# Altium integrated library Analog Devices Switches and Multiplexers Analog Switches.IntLib: 575 symbols (part 6 of 23)
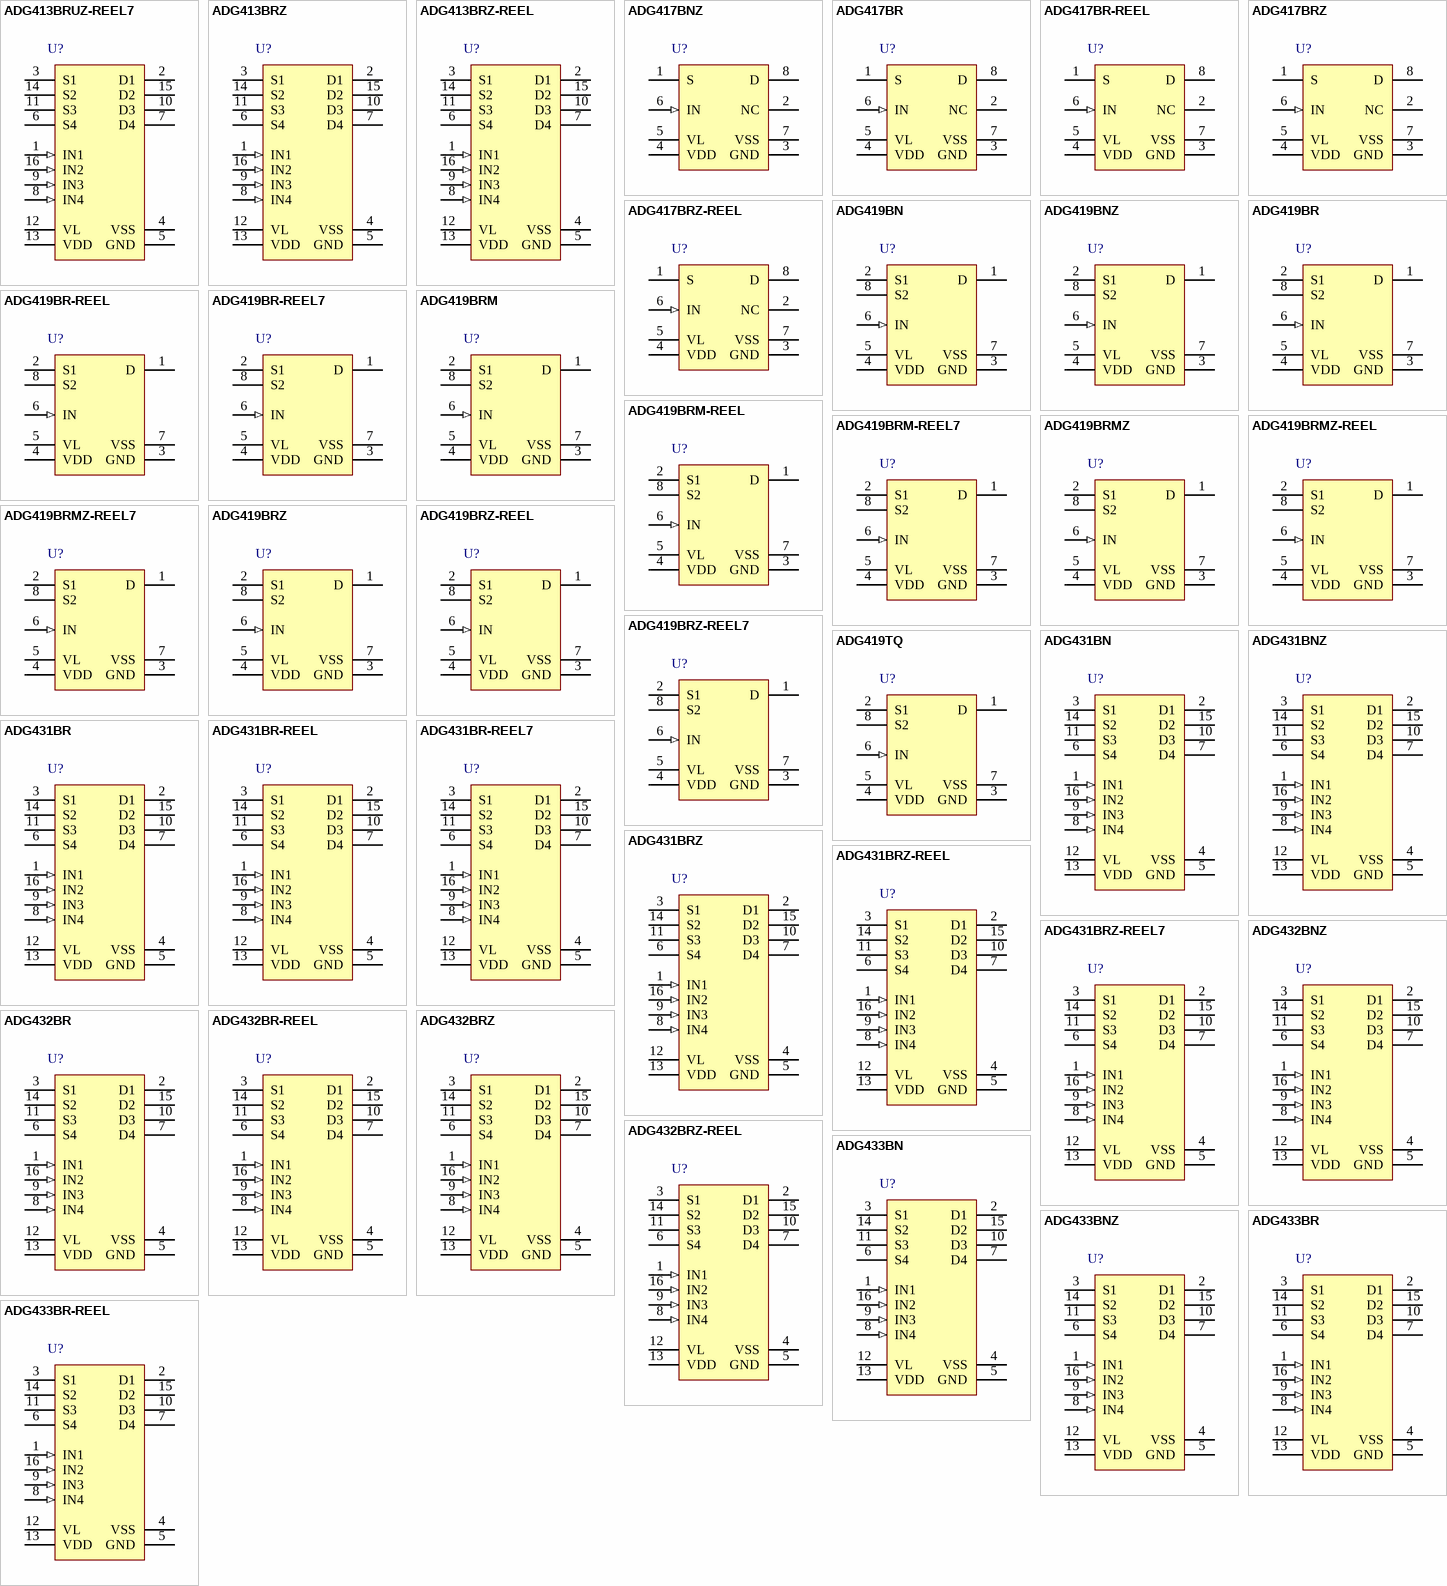
[diagram p20: symbols ADG413BRUZ-REEL7 to ADG433BR-REEL]

## ADG413BRZ
designator U?
LC2MOS Precision Quad SPST Switches, 25 Ohm Ron, 16-pin SOIC (R-16), Tube; Manufacturer: Analog Devices; PartNumber: ADG413BRZ; # Sw Functions: 4; Max Neg Supply: -16.5V; Max Pos Supply: +16.5V; Ron (ohms): 25, 40; t ON: 110ns, 175ns; DatasheetVersion: Rev. D; PackageVersion: 060606-A, 06/2006; PackageReference: R-16; PackageDescription: 16-Pin Standard Small Outline Package, Body 9.9 x 3.9 mm, Pitch 1.27 mm; Supplier 1: Digi-Key; Supplier Part Number 1: ADG413BRZ-ND; Supplier 2: Farnell; Supplier Part Number 2: 1661022; Supplier 3: Newark; Supplier Part Number 3: 19M8650; Supplier 4: Mouser; Supplier Part Number 4: 584-ADG413BRZ; Configuration: SPST; Packing: Tube; Mounting Technology: Surface Mount; Code_JEDEC: MS-012-AC; ComponentLink1Description: Manufacturer URL; ComponentLink1URL: http://www.analog.com/en/index.html; ComponentLink2Description: Datasheet; ComponentLink2URL: http://www.analog.com/static/imported-files/data_sheets/ADG411_412_413.pdf; ComponentLink3Description: Package Specification; ComponentLink3URL: http://www.analog.com/static/imported-files/packages/PKG_PDF/SOIC_Narrow%20(R)/R_16.pdf
footprint ADI-R-16_N (SOIC, 16-Leads, Body 9.9x3.9mm, Pitch 1.27mm, IPC Medium Density)
footprint ADI-R-16_L (SOIC, 16-Leads, Body 9.9x3.9mm, Pitch 1.27mm, IPC High Density)
footprint ADI-R-16_M (SOIC, 16-Leads, Body 9.9x3.9mm, Pitch 1.27mm, IPC Low Density)
pins: 1 IN1 (in) "Logic Control Input.", 2 D1 "Drain Terminal. Can be an input or output.", 3 S1 "Source Terminal. Can be an input or output.", 4 VSS (power) "Most Negative Power Supply Potential in Dual Supplies. In single supply applications, it may be connected to GND.", 5 GND (power) "Ground (0 V) Reference.", 6 S4 "Source Terminal. Can be an input or output.", 7 D4 "Drain Terminal. Can be an input or output.", 8 IN4 (in) "Logic Control Input.", 9 IN3 (in) "Logic Control Input.", 10 D3 "Drain Terminal. Can be an input or output.", 11 S3 "Source Terminal. Can be an input or output.", 12 VL (power) "Logic Power Supply (5 V).", 13 VDD (power) "Most Positive Power Supply Potential.", 14 S2 "Source Terminal. Can be an input or output.", 15 D2 "Drain Terminal. Can be an input or output.", 16 IN2 (in) "Logic Control Input."

## ADG413BRZ-REEL
designator U?
LC2MOS Precision Quad SPST Switches, 25 Ohm Ron, 16-pin SOIC (R-16), Reel; Manufacturer: Analog Devices; PartNumber: ADG413BRZ-REEL; # Sw Functions: 4; Max Neg Supply: -16.5V; Max Pos Supply: +16.5V; Ron (ohms): 25, 40; t ON: 110ns, 175ns; DatasheetVersion: Rev. D; PackageVersion: 060606-A, 06/2006; PackageReference: R-16; PackageDescription: 16-Pin Standard Small Outline Package, Body 9.9 x 3.9 mm, Pitch 1.27 mm; Supplier 1: Digi-Key; Supplier Part Number 1: ADG413BRZ-REELTR-ND; Supplier 2: Digi-Key; Supplier Part Number 2: ADG413BRZ-REELCT-ND; Supplier 3: Digi-Key; Supplier Part Number 3: ADG413BRZ-REELDKR-ND; Supplier 4: Newark; Supplier Part Number 4: 59K1256; Supplier 5: Mouser; Supplier Part Number 5: 584-ADG413BRZ-R; Configuration: SPST; Packing: Reel; Mounting Technology: Surface Mount; Code_JEDEC: MS-012-AC; ComponentLink1Description: Manufacturer URL; ComponentLink1URL: http://www.analog.com/en/index.html; ComponentLink2Description: Datasheet; ComponentLink2URL: http://www.analog.com/static/imported-files/data_sheets/ADG411_412_413.pdf; ComponentLink3Description: Package Specification; ComponentLink3URL: http://www.analog.com/static/imported-files/packages/PKG_PDF/SOIC_Narrow%20(R)/R_16.pdf
footprint ADI-R-16_N (SOIC, 16-Leads, Body 9.9x3.9mm, Pitch 1.27mm, IPC Medium Density)
footprint ADI-R-16_L (SOIC, 16-Leads, Body 9.9x3.9mm, Pitch 1.27mm, IPC High Density)
footprint ADI-R-16_M (SOIC, 16-Leads, Body 9.9x3.9mm, Pitch 1.27mm, IPC Low Density)
pins: 1 IN1 (in) "Logic Control Input.", 2 D1 "Drain Terminal. Can be an input or output.", 3 S1 "Source Terminal. Can be an input or output.", 4 VSS (power) "Most Negative Power Supply Potential in Dual Supplies. In single supply applications, it may be connected to GND.", 5 GND (power) "Ground (0 V) Reference.", 6 S4 "Source Terminal. Can be an input or output.", 7 D4 "Drain Terminal. Can be an input or output.", 8 IN4 (in) "Logic Control Input.", 9 IN3 (in) "Logic Control Input.", 10 D3 "Drain Terminal. Can be an input or output.", 11 S3 "Source Terminal. Can be an input or output.", 12 VL (power) "Logic Power Supply (5 V).", 13 VDD (power) "Most Positive Power Supply Potential.", 14 S2 "Source Terminal. Can be an input or output.", 15 D2 "Drain Terminal. Can be an input or output.", 16 IN2 (in) "Logic Control Input."

## ADG417BNZ
designator U?
LC2MOS Precision Mini-DIP Analog Switches, 25 Ohm Ron, 8-pin DIP (N-8), Tube; Manufacturer: Analog Devices; PartNumber: ADG417BNZ; # Sw Functions: 1; Configuration: SPST; Max Neg Supply: -16.5V; Max Pos Supply: +16.5V; Ron (ohms): 25, 40; t ON: 100ns, N/A; DatasheetVersion: Rev. A; PackageVersion: 070606-A, 07/2006; PackageReference: N-8; PackageDescription: 8-Pin Plastic Dual In-Line Package, Row spacing 7.62 mm, Pitch 2.54 mm; Supplier 1: Digi-Key; Supplier Part Number 1: ADG417BNZ-ND; Supplier 2: Farnell; Supplier Part Number 2: 1311279; Supplier 3: Newark; Supplier Part Number 3: 59K1257; Supplier 4: Mouser; Supplier Part Number 4: 584-ADG417BNZ; Packing: Tube; Mounting Technology: Through Hole; Code_JEDEC: MS-001; ComponentLink1Description: Manufacturer URL; ComponentLink1URL: http://www.analog.com/en/index.html; ComponentLink2Description: Datasheet; ComponentLink2URL: http://www.analog.com/static/imported-files/data_sheets/ADG417.pdf; ComponentLink3Description: Package Specification; ComponentLink3URL: http:/www.analog.com/static/imported-files/packages/PKG_PDF/PDIP(N)/N_8.pdf
footprint ADI-N-8 (DIP, 8-Leads, Body 9.59x6.6mm, Pitch 2.54mm)
pins: 1 S "Source terminal. May be an input or an output.", 2 NC "No connect", 3 GND (power) "Ground (0 V) reference.", 4 VDD (power) "Most positive power supply potential.", 5 VL (power) "Logic power supply (+5 V).", 6 IN (in) "Logic control input.", 7 VSS (power) "Most negative power supply potential in dual supplies. In single supply applications, it may be connected to GND.", 8 D "Drain terminal. May be an input or an output."

## ADG417BR
designator U?
LC2MOS Precision Mini-DIP Analog Switches, 25 Ohm Ron, 8-pin SOIC (R-8), Tube; Manufacturer: Analog Devices; PartNumber: ADG417BR; # Sw Functions: 1; Configuration: SPST; Max Neg Supply: -16.5V; Max Pos Supply: +16.5V; Ron (ohms): 25, 40; t ON: 100ns, N/A; DatasheetVersion: Rev. A; PackageVersion: 060506-A, 06/2006; PackageReference: R-8; PackageDescription: 8-Pin Standard Small Outline Package, Body 4.9 x 3.9 mm, Pitch 1.27 mm; Supplier 1: Digi-Key; Supplier Part Number 1: ADG417BR-ND; Supplier 2: Mouser; Supplier Part Number 2: 584-ADG417BR; Packing: Tube; Mounting Technology: Surface Mount; Code_JEDEC: MS-012-AA; ComponentLink1Description: Manufacturer URL; ComponentLink1URL: http://www.analog.com/en/index.html; ComponentLink2Description: Datasheet; ComponentLink2URL: http://www.analog.com/static/imported-files/data_sheets/ADG417.pdf; ComponentLink3Description: Package Specification; ComponentLink3URL: http://www.analog.com/static/imported-files/packages/PKG_PDF/SOIC_Narrow%20(R)/R_8.pdf
footprint ADI-R-8_N (SOIC, 8-Leads, Body 4.9x3.9mm, Pitch 1.27mm, IPC Medium Density)
footprint ADI-R-8_L (SOIC, 8-Leads, Body 4.9x3.9mm, Pitch 1.27mm, IPC High Density)
footprint ADI-R-8_M (SOIC, 8-Leads, Body 4.9x3.9mm, Pitch 1.27mm, IPC Low Density)
pins: 1 S "Source terminal. May be an input or an output.", 2 NC "No connect", 3 GND (power) "Ground (0 V) reference.", 4 VDD (power) "Most positive power supply potential.", 5 VL (power) "Logic power supply (+5 V).", 6 IN (in) "Logic control input.", 7 VSS (power) "Most negative power supply potential in dual supplies. In single supply applications, it may be connected to GND.", 8 D "Drain terminal. May be an input or an output."

## ADG417BR-REEL
designator U?
LC2MOS Precision Mini-DIP Analog Switches, 25 Ohm Ron, 8-pin SOIC (R-8), Reel; Manufacturer: Analog Devices; PartNumber: ADG417BR-REEL; # Sw Functions: 1; Configuration: SPST; Max Neg Supply: -16.5V; Max Pos Supply: +16.5V; Ron (ohms): 25, 40; t ON: 100ns, N/A; DatasheetVersion: Rev. A; PackageVersion: 060506-A, 06/2006; PackageReference: R-8; PackageDescription: 8-Pin Standard Small Outline Package, Body 4.9 x 3.9 mm, Pitch 1.27 mm; Supplier 1: Digi-Key; Supplier Part Number 1: ADG417BR-REEL-ND; Supplier 2: Newark; Supplier Part Number 2: 09B7029; Packing: Reel; Mounting Technology: Surface Mount; Code_JEDEC: MS-012-AA; ComponentLink1Description: Manufacturer URL; ComponentLink1URL: http://www.analog.com/en/index.html; ComponentLink2Description: Datasheet; ComponentLink2URL: http://www.analog.com/static/imported-files/data_sheets/ADG417.pdf; ComponentLink3Description: Package Specification; ComponentLink3URL: http://www.analog.com/static/imported-files/packages/PKG_PDF/SOIC_Narrow%20(R)/R_8.pdf
footprint ADI-R-8_N (SOIC, 8-Leads, Body 4.9x3.9mm, Pitch 1.27mm, IPC Medium Density)
footprint ADI-R-8_L (SOIC, 8-Leads, Body 4.9x3.9mm, Pitch 1.27mm, IPC High Density)
footprint ADI-R-8_M (SOIC, 8-Leads, Body 4.9x3.9mm, Pitch 1.27mm, IPC Low Density)
pins: 1 S "Source terminal. May be an input or an output.", 2 NC "No connect", 3 GND (power) "Ground (0 V) reference.", 4 VDD (power) "Most positive power supply potential.", 5 VL (power) "Logic power supply (+5 V).", 6 IN (in) "Logic control input.", 7 VSS (power) "Most negative power supply potential in dual supplies. In single supply applications, it may be connected to GND.", 8 D "Drain terminal. May be an input or an output."

## ADG417BRZ
designator U?
LC2MOS Precision Mini-DIP Analog Switches, 25 Ohm Ron, 8-pin SOIC (R-8), Tube; Manufacturer: Analog Devices; PartNumber: ADG417BRZ; # Sw Functions: 1; Configuration: SPST; Max Neg Supply: -16.5V; Max Pos Supply: +16.5V; Ron (ohms): 25, 40; t ON: 100ns, N/A; DatasheetVersion: Rev. A; PackageVersion: 060506-A, 06/2006; PackageReference: R-8; PackageDescription: 8-Pin Standard Small Outline Package, Body 4.9 x 3.9 mm, Pitch 1.27 mm; Supplier 1: Digi-Key; Supplier Part Number 1: ADG417BRZ-ND; Supplier 2: Farnell; Supplier Part Number 2: 1814351; Supplier 3: Newark; Supplier Part Number 3: 74R7488; Supplier 4: Newark; Supplier Part Number 4: 19M8651; Supplier 5: Mouser; Supplier Part Number 5: 584-ADG417BRZ; Packing: Tube; Mounting Technology: Surface Mount; Code_JEDEC: MS-012-AA; ComponentLink1Description: Manufacturer URL; ComponentLink1URL: http://www.analog.com/en/index.html; ComponentLink2Description: Datasheet; ComponentLink2URL: http://www.analog.com/static/imported-files/data_sheets/ADG417.pdf; ComponentLink3Description: Package Specification; ComponentLink3URL: http://www.analog.com/static/imported-files/packages/PKG_PDF/SOIC_Narrow%20(R)/R_8.pdf
footprint ADI-R-8_N (SOIC, 8-Leads, Body 4.9x3.9mm, Pitch 1.27mm, IPC Medium Density)
footprint ADI-R-8_L (SOIC, 8-Leads, Body 4.9x3.9mm, Pitch 1.27mm, IPC High Density)
footprint ADI-R-8_M (SOIC, 8-Leads, Body 4.9x3.9mm, Pitch 1.27mm, IPC Low Density)
pins: 1 S "Source terminal. May be an input or an output.", 2 NC "No connect", 3 GND (power) "Ground (0 V) reference.", 4 VDD (power) "Most positive power supply potential.", 5 VL (power) "Logic power supply (+5 V).", 6 IN (in) "Logic control input.", 7 VSS (power) "Most negative power supply potential in dual supplies. In single supply applications, it may be connected to GND.", 8 D "Drain terminal. May be an input or an output."

## ADG417BRZ-REEL
designator U?
LC2MOS Precision Mini-DIP Analog Switches, 25 Ohm Ron, 8-pin SOIC (R-8), Reel; Manufacturer: Analog Devices; PartNumber: ADG417BRZ-REEL; # Sw Functions: 1; Configuration: SPST; Max Neg Supply: -16.5V; Max Pos Supply: +16.5V; Ron (ohms): 25, 40; t ON: 100ns, N/A; DatasheetVersion: Rev. A; PackageVersion: 060506-A, 06/2006; PackageReference: R-8; PackageDescription: 8-Pin Standard Small Outline Package, Body 4.9 x 3.9 mm, Pitch 1.27 mm; Supplier 1: Digi-Key; Supplier Part Number 1: ADG417BRZ-REELTR-ND; Supplier 2: Digi-Key; Supplier Part Number 2: ADG417BRZ-REELCT-ND; Supplier 3: Digi-Key; Supplier Part Number 3: ADG417BRZ-REELDKR-ND; Supplier 4: Newark; Supplier Part Number 4: 12M7794; Supplier 5: Mouser; Supplier Part Number 5: 584-ADG417BRZ-R; Packing: Reel; Mounting Technology: Surface Mount; Code_JEDEC: MS-012-AA; ComponentLink1Description: Manufacturer URL; ComponentLink1URL: http://www.analog.com/en/index.html; ComponentLink2Description: Datasheet; ComponentLink2URL: http://www.analog.com/static/imported-files/data_sheets/ADG417.pdf; ComponentLink3Description: Package Specification; ComponentLink3URL: http://www.analog.com/static/imported-files/packages/PKG_PDF/SOIC_Narrow%20(R)/R_8.pdf
footprint ADI-R-8_N (SOIC, 8-Leads, Body 4.9x3.9mm, Pitch 1.27mm, IPC Medium Density)
footprint ADI-R-8_L (SOIC, 8-Leads, Body 4.9x3.9mm, Pitch 1.27mm, IPC High Density)
footprint ADI-R-8_M (SOIC, 8-Leads, Body 4.9x3.9mm, Pitch 1.27mm, IPC Low Density)
pins: 1 S "Source terminal. May be an input or an output.", 2 NC "No connect", 3 GND (power) "Ground (0 V) reference.", 4 VDD (power) "Most positive power supply potential.", 5 VL (power) "Logic power supply (+5 V).", 6 IN (in) "Logic control input.", 7 VSS (power) "Most negative power supply potential in dual supplies. In single supply applications, it may be connected to GND.", 8 D "Drain terminal. May be an input or an output."

## ADG419BN
designator U?
LC2MOS Precision Mini-DIP Analog Switches, 25 Ohm Ron, 8-pin DIP (N-8), Tube; Manufacturer: Analog Devices; PartNumber: ADG419BN; # Sw Functions: 1; Configuration: SPDT; Max Neg Supply: -16.5V; Max Pos Supply: +16.5V; Ron (ohms): 25, 40; DatasheetVersion: Rev. C; PackageVersion: 070606-A, 07/2006; PackageReference: N-8; PackageDescription: 8-Pin Plastic Dual In-Line Package, Row spacing 7.62 mm, Pitch 2.54 mm; Supplier 1: Digi-Key; Supplier Part Number 1: ADG419BN-ND; Packing: Tube; Mounting Technology: Through Hole; Code_JEDEC: MS-001; ComponentLink1Description: Manufacturer URL; ComponentLink1URL: http://www.analog.com/en/index.html; ComponentLink2Description: Datasheet; ComponentLink2URL: http://www.analog.com/static/imported-files/data_sheets/ADG419.pdf; ComponentLink3Description: Package Specification; ComponentLink3URL: http:/www.analog.com/static/imported-files/packages/PKG_PDF/PDIP(N)/N_8.pdf
footprint ADI-N-8 (DIP, 8-Leads, Body 9.59x6.6mm, Pitch 2.54mm)
pins: 1 D "Drain terminal. May be an input or an output.", 2 S1 "Source terminal. May be an input or an output.", 3 GND (power) "Ground (0 V) reference.", 4 VDD (power) "Most positive power supply potential.", 5 VL (power) "Logic power supply (5 V).", 6 IN (in) "Logic control input.", 7 VSS (power) "Most negative power supply potential in dual-supply applications. In single-supply applications, it may be connected to GND.", 8 S2 "Source terminal. May be an input or an output."

## ADG419BNZ
designator U?
LC2MOS Precision Mini-DIP Analog Switches, 25 Ohm Ron, 8-pin DIP (N-8), Tube; Manufacturer: Analog Devices; PartNumber: ADG419BNZ; # Sw Functions: 1; Configuration: SPDT; Max Neg Supply: -16.5V; Max Pos Supply: +16.5V; Ron (ohms): 25, 40; DatasheetVersion: Rev. C; PackageVersion: 070606-A, 07/2006; PackageReference: N-8; PackageDescription: 8-Pin Plastic Dual In-Line Package, Row spacing 7.62 mm, Pitch 2.54 mm; Supplier 1: Digi-Key; Supplier Part Number 1: ADG419BNZ-ND; Supplier 2: Farnell; Supplier Part Number 2: 1438705; Supplier 3: Newark; Supplier Part Number 3: 59K1259; Supplier 4: Mouser; Supplier Part Number 4: 584-ADG419BNZ; Packing: Tube; Mounting Technology: Through Hole; Code_JEDEC: MS-001; ComponentLink1Description: Manufacturer URL; ComponentLink1URL: http://www.analog.com/en/index.html; ComponentLink2Description: Datasheet; ComponentLink2URL: http://www.analog.com/static/imported-files/data_sheets/ADG419.pdf; ComponentLink3Description: Package Specification; ComponentLink3URL: http:/www.analog.com/static/imported-files/packages/PKG_PDF/PDIP(N)/N_8.pdf
footprint ADI-N-8 (DIP, 8-Leads, Body 9.59x6.6mm, Pitch 2.54mm)
pins: 1 D "Drain terminal. May be an input or an output.", 2 S1 "Source terminal. May be an input or an output.", 3 GND (power) "Ground (0 V) reference.", 4 VDD (power) "Most positive power supply potential.", 5 VL (power) "Logic power supply (5 V).", 6 IN (in) "Logic control input.", 7 VSS (power) "Most negative power supply potential in dual-supply applications. In single-supply applications, it may be connected to GND.", 8 S2 "Source terminal. May be an input or an output."

## ADG419BR
designator U?
LC2MOS Precision Mini-DIP Analog Switches, 25 Ohm Ron, 8-pin SOIC (R-8), Tube; Manufacturer: Analog Devices; PartNumber: ADG419BR; # Sw Functions: 1; Configuration: SPDT; Max Neg Supply: -16.5V; Max Pos Supply: +16.5V; Ron (ohms): 25, 40; DatasheetVersion: Rev. C; PackageVersion: 060506-A, 06/2006; PackageReference: R-8; PackageDescription: 8-Pin Standard Small Outline Package, Body 4.9 x 3.9 mm, Pitch 1.27 mm; Supplier 1: Digi-Key; Supplier Part Number 1: ADG419BR-ND; Supplier 2: Newark; Supplier Part Number 2: 05F6203; Supplier 3: Mouser; Supplier Part Number 3: 584-ADG419BR; Packing: Tube; Mounting Technology: Surface Mount; Code_JEDEC: MS-012-AA; ComponentLink1Description: Manufacturer URL; ComponentLink1URL: http://www.analog.com/en/index.html; ComponentLink2Description: Datasheet; ComponentLink2URL: http://www.analog.com/static/imported-files/data_sheets/ADG419.pdf; ComponentLink3Description: Package Specification; ComponentLink3URL: http://www.analog.com/static/imported-files/packages/PKG_PDF/SOIC_Narrow%20(R)/R_8.pdf
footprint ADI-R-8_N (SOIC, 8-Leads, Body 4.9x3.9mm, Pitch 1.27mm, IPC Medium Density)
footprint ADI-R-8_L (SOIC, 8-Leads, Body 4.9x3.9mm, Pitch 1.27mm, IPC High Density)
footprint ADI-R-8_M (SOIC, 8-Leads, Body 4.9x3.9mm, Pitch 1.27mm, IPC Low Density)
pins: 1 D "Drain terminal. May be an input or an output.", 2 S1 "Source terminal. May be an input or an output.", 3 GND (power) "Ground (0 V) reference.", 4 VDD (power) "Most positive power supply potential.", 5 VL (power) "Logic power supply (5 V).", 6 IN (in) "Logic control input.", 7 VSS (power) "Most negative power supply potential in dual-supply applications. In single-supply applications, it may be connected to GND.", 8 S2 "Source terminal. May be an input or an output."

## ADG419BR-REEL
designator U?
LC2MOS Precision Mini-DIP Analog Switches, 25 Ohm Ron, 8-pin SOIC (R-8), Reel; Manufacturer: Analog Devices; PartNumber: ADG419BR-REEL; # Sw Functions: 1; Configuration: SPDT; Max Neg Supply: -16.5V; Max Pos Supply: +16.5V; Ron (ohms): 25, 40; DatasheetVersion: Rev. C; PackageVersion: 060506-A, 06/2006; PackageReference: R-8; PackageDescription: 8-Pin Standard Small Outline Package, Body 4.9 x 3.9 mm, Pitch 1.27 mm; Supplier 1: Digi-Key; Supplier Part Number 1: ADG419BR-REEL-ND; Supplier 2: Newark; Supplier Part Number 2: 09B7033; Supplier 3: Mouser; Supplier Part Number 3: 584-ADG419BR-R; Packing: Reel; Mounting Technology: Surface Mount; Code_JEDEC: MS-012-AA; ComponentLink1Description: Manufacturer URL; ComponentLink1URL: http://www.analog.com/en/index.html; ComponentLink2Description: Datasheet; ComponentLink2URL: http://www.analog.com/static/imported-files/data_sheets/ADG419.pdf; ComponentLink3Description: Package Specification; ComponentLink3URL: http://www.analog.com/static/imported-files/packages/PKG_PDF/SOIC_Narrow%20(R)/R_8.pdf
footprint ADI-R-8_N (SOIC, 8-Leads, Body 4.9x3.9mm, Pitch 1.27mm, IPC Medium Density)
footprint ADI-R-8_L (SOIC, 8-Leads, Body 4.9x3.9mm, Pitch 1.27mm, IPC High Density)
footprint ADI-R-8_M (SOIC, 8-Leads, Body 4.9x3.9mm, Pitch 1.27mm, IPC Low Density)
pins: 1 D "Drain terminal. May be an input or an output.", 2 S1 "Source terminal. May be an input or an output.", 3 GND (power) "Ground (0 V) reference.", 4 VDD (power) "Most positive power supply potential.", 5 VL (power) "Logic power supply (5 V).", 6 IN (in) "Logic control input.", 7 VSS (power) "Most negative power supply potential in dual-supply applications. In single-supply applications, it may be connected to GND.", 8 S2 "Source terminal. May be an input or an output."

## ADG419BR-REEL7
designator U?
LC2MOS Precision Mini-DIP Analog Switches, 25 Ohm Ron, 8-pin SOIC (R-8), Reel; Manufacturer: Analog Devices; PartNumber: ADG419BR-REEL7; # Sw Functions: 1; Configuration: SPDT; Max Neg Supply: -16.5V; Max Pos Supply: +16.5V; Ron (ohms): 25, 40; DatasheetVersion: Rev. C; PackageVersion: 060506-A, 06/2006; PackageReference: R-8; PackageDescription: 8-Pin Standard Small Outline Package, Body 4.9 x 3.9 mm, Pitch 1.27 mm; Supplier 1: Digi-Key; Supplier Part Number 1: ADG419BR-REEL7-ND; Supplier 2: Newark; Supplier Part Number 2: 09B7034; Supplier 3: Mouser; Supplier Part Number 3: 584-ADG419BR-R7; Packing: Reel; Mounting Technology: Surface Mount; Code_JEDEC: MS-012-AA; ComponentLink1Description: Manufacturer URL; ComponentLink1URL: http://www.analog.com/en/index.html; ComponentLink2Description: Datasheet; ComponentLink2URL: http://www.analog.com/static/imported-files/data_sheets/ADG419.pdf; ComponentLink3Description: Package Specification; ComponentLink3URL: http://www.analog.com/static/imported-files/packages/PKG_PDF/SOIC_Narrow%20(R)/R_8.pdf
footprint ADI-R-8_N (SOIC, 8-Leads, Body 4.9x3.9mm, Pitch 1.27mm, IPC Medium Density)
footprint ADI-R-8_L (SOIC, 8-Leads, Body 4.9x3.9mm, Pitch 1.27mm, IPC High Density)
footprint ADI-R-8_M (SOIC, 8-Leads, Body 4.9x3.9mm, Pitch 1.27mm, IPC Low Density)
pins: 1 D "Drain terminal. May be an input or an output.", 2 S1 "Source terminal. May be an input or an output.", 3 GND (power) "Ground (0 V) reference.", 4 VDD (power) "Most positive power supply potential.", 5 VL (power) "Logic power supply (5 V).", 6 IN (in) "Logic control input.", 7 VSS (power) "Most negative power supply potential in dual-supply applications. In single-supply applications, it may be connected to GND.", 8 S2 "Source terminal. May be an input or an output."

## ADG419BRM
designator U?
LC2MOS Precision Mini-DIP Analog Switches, 25 Ohm Ron, 8-pin SOP (RM-8), Tube; Manufacturer: Analog Devices; PartNumber: ADG419BRM; # Sw Functions: 1; Configuration: SPDT; Max Neg Supply: -16.5V; Max Pos Supply: +16.5V; Ron (ohms): 25, 40; DatasheetVersion: Rev. C; PackageVersion: Aug-05; PackageReference: RM-8; PackageDescription: 8-Pin Mini Small Outline Package, Body 3 x 3 mm, Pitch 0.65 mm; Supplier 1: Digi-Key; Supplier Part Number 1: ADG419BRM-ND; Supplier 2: Mouser; Supplier Part Number 2: 584-ADG419BRM; Packing: Tube; Mounting Technology: Surface Mount; Code_JEDEC: MO-187-AA; ComponentLink1Description: Manufacturer URL; ComponentLink1URL: http://www.analog.com/en/index.html; ComponentLink2Description: Datasheet; ComponentLink2URL: http://www.analog.com/static/imported-files/data_sheets/ADG419.pdf; ComponentLink3Description: Package Specification; ComponentLink3URL: http://www.analog.com/static/imported-files/packages/PKG_PDF/MSOP%28RM%29/RM_8.pdf
footprint ADI-RM-8_N (SOP, 8-Leads, Body 3x3mm, Pitch 0.65mm, IPC Medium Density)
footprint ADI-RM-8_L (SOP, 8-Leads, Body 3x3mm, Pitch 0.65mm, IPC High Density)
footprint ADI-RM-8_M (SOP, 8-Leads, Body 3x3mm, Pitch 0.65mm, IPC Low Density)
pins: 1 D "Drain terminal. May be an input or an output.", 2 S1 "Source terminal. May be an input or an output.", 3 GND (power) "Ground (0 V) reference.", 4 VDD (power) "Most positive power supply potential.", 5 VL (power) "Logic power supply (5 V).", 6 IN (in) "Logic control input.", 7 VSS (power) "Most negative power supply potential in dual-supply applications. In single-supply applications, it may be connected to GND.", 8 S2 "Source terminal. May be an input or an output."

## ADG419BRM-REEL
designator U?
LC2MOS Precision Mini-DIP Analog Switches, 25 Ohm Ron, 8-pin SOP (RM-8), Reel; Manufacturer: Analog Devices; PartNumber: ADG419BRM-REEL; # Sw Functions: 1; Configuration: SPDT; Max Neg Supply: -16.5V; Max Pos Supply: +16.5V; Ron (ohms): 25, 40; DatasheetVersion: Rev. C; PackageVersion: Aug-05; PackageReference: RM-8; PackageDescription: 8-Pin Mini Small Outline Package, Body 3 x 3 mm, Pitch 0.65 mm; Supplier 1: Digi-Key; Supplier Part Number 1: ADG419BRM-REEL-ND; Supplier 2: Newark; Supplier Part Number 2: 09B7031; Supplier 3: Mouser; Supplier Part Number 3: 584-ADG419BRM-R; Packing: Reel; Mounting Technology: Surface Mount; Code_JEDEC: MO-187-AA; ComponentLink1Description: Manufacturer URL; ComponentLink1URL: http://www.analog.com/en/index.html; ComponentLink2Description: Datasheet; ComponentLink2URL: http://www.analog.com/static/imported-files/data_sheets/ADG419.pdf; ComponentLink3Description: Package Specification; ComponentLink3URL: http://www.analog.com/static/imported-files/packages/PKG_PDF/MSOP%28RM%29/RM_8.pdf
footprint ADI-RM-8_N (SOP, 8-Leads, Body 3x3mm, Pitch 0.65mm, IPC Medium Density)
footprint ADI-RM-8_L (SOP, 8-Leads, Body 3x3mm, Pitch 0.65mm, IPC High Density)
footprint ADI-RM-8_M (SOP, 8-Leads, Body 3x3mm, Pitch 0.65mm, IPC Low Density)
pins: 1 D "Drain terminal. May be an input or an output.", 2 S1 "Source terminal. May be an input or an output.", 3 GND (power) "Ground (0 V) reference.", 4 VDD (power) "Most positive power supply potential.", 5 VL (power) "Logic power supply (5 V).", 6 IN (in) "Logic control input.", 7 VSS (power) "Most negative power supply potential in dual-supply applications. In single-supply applications, it may be connected to GND.", 8 S2 "Source terminal. May be an input or an output."

## ADG419BRM-REEL7
designator U?
LC2MOS Precision Mini-DIP Analog Switches, 25 Ohm Ron, 8-pin SOP (RM-8), Reel; Manufacturer: Analog Devices; PartNumber: ADG419BRM-REEL7; # Sw Functions: 1; Configuration: SPDT; Max Neg Supply: -16.5V; Max Pos Supply: +16.5V; Ron (ohms): 25, 40; DatasheetVersion: Rev. C; PackageVersion: Aug-05; PackageReference: RM-8; PackageDescription: 8-Pin Mini Small Outline Package, Body 3 x 3 mm, Pitch 0.65 mm; Supplier 1: Digi-Key; Supplier Part Number 1: ADG419BRM-REEL7-ND; Supplier 2: Newark; Supplier Part Number 2: 09B7032; Supplier 3: Mouser; Supplier Part Number 3: 584-ADG419BRM-R7; Packing: Reel; Mounting Technology: Surface Mount; Code_JEDEC: MO-187-AA; ComponentLink1Description: Manufacturer URL; ComponentLink1URL: http://www.analog.com/en/index.html; ComponentLink2Description: Datasheet; ComponentLink2URL: http://www.analog.com/static/imported-files/data_sheets/ADG419.pdf; ComponentLink3Description: Package Specification; ComponentLink3URL: http://www.analog.com/static/imported-files/packages/PKG_PDF/MSOP%28RM%29/RM_8.pdf
footprint ADI-RM-8_N (SOP, 8-Leads, Body 3x3mm, Pitch 0.65mm, IPC Medium Density)
footprint ADI-RM-8_L (SOP, 8-Leads, Body 3x3mm, Pitch 0.65mm, IPC High Density)
footprint ADI-RM-8_M (SOP, 8-Leads, Body 3x3mm, Pitch 0.65mm, IPC Low Density)
pins: 1 D "Drain terminal. May be an input or an output.", 2 S1 "Source terminal. May be an input or an output.", 3 GND (power) "Ground (0 V) reference.", 4 VDD (power) "Most positive power supply potential.", 5 VL (power) "Logic power supply (5 V).", 6 IN (in) "Logic control input.", 7 VSS (power) "Most negative power supply potential in dual-supply applications. In single-supply applications, it may be connected to GND.", 8 S2 "Source terminal. May be an input or an output."

## ADG419BRMZ
designator U?
LC2MOS Precision Mini-DIP Analog Switches, 25 Ohm Ron, 8-pin SOP (RM-8), Tube; Manufacturer: Analog Devices; PartNumber: ADG419BRMZ; # Sw Functions: 1; Configuration: SPDT; Max Neg Supply: -16.5V; Max Pos Supply: +16.5V; Ron (ohms): 25, 40; DatasheetVersion: Rev. C; PackageVersion: Aug-05; PackageReference: RM-8; PackageDescription: 8-Pin Mini Small Outline Package, Body 3 x 3 mm, Pitch 0.65 mm; Supplier 1: Digi-Key; Supplier Part Number 1: ADG419BRMZ-ND; Supplier 2: Farnell; Supplier Part Number 2: 1661023; Supplier 3: Newark; Supplier Part Number 3: 19M8652; Supplier 4: Mouser; Supplier Part Number 4: 584-ADG419BRMZ; Packing: Tube; Mounting Technology: Surface Mount; Code_JEDEC: MO-187-AA; ComponentLink1Description: Manufacturer URL; ComponentLink1URL: http://www.analog.com/en/index.html; ComponentLink2Description: Datasheet; ComponentLink2URL: http://www.analog.com/static/imported-files/data_sheets/ADG419.pdf; ComponentLink3Description: Package Specification; ComponentLink3URL: http://www.analog.com/static/imported-files/packages/PKG_PDF/MSOP%28RM%29/RM_8.pdf
footprint ADI-RM-8_N (SOP, 8-Leads, Body 3x3mm, Pitch 0.65mm, IPC Medium Density)
footprint ADI-RM-8_L (SOP, 8-Leads, Body 3x3mm, Pitch 0.65mm, IPC High Density)
footprint ADI-RM-8_M (SOP, 8-Leads, Body 3x3mm, Pitch 0.65mm, IPC Low Density)
pins: 1 D "Drain terminal. May be an input or an output.", 2 S1 "Source terminal. May be an input or an output.", 3 GND (power) "Ground (0 V) reference.", 4 VDD (power) "Most positive power supply potential.", 5 VL (power) "Logic power supply (5 V).", 6 IN (in) "Logic control input.", 7 VSS (power) "Most negative power supply potential in dual-supply applications. In single-supply applications, it may be connected to GND.", 8 S2 "Source terminal. May be an input or an output."

## ADG419BRMZ-REEL
designator U?
LC2MOS Precision Mini-DIP Analog Switches, 25 Ohm Ron, 8-pin SOP (RM-8), Reel; Manufacturer: Analog Devices; PartNumber: ADG419BRMZ-REEL; # Sw Functions: 1; Configuration: SPDT; Max Neg Supply: -16.5V; Max Pos Supply: +16.5V; Ron (ohms): 25, 40; DatasheetVersion: Rev. C; PackageVersion: Aug-05; PackageReference: RM-8; PackageDescription: 8-Pin Mini Small Outline Package, Body 3 x 3 mm, Pitch 0.65 mm; Supplier 1: Digi-Key; Supplier Part Number 1: ADG419BRMZ-REEL-ND; Supplier 2: Newark; Supplier Part Number 2: 59K1261; Supplier 3: Mouser; Supplier Part Number 3: 584-ADG419BRMZ-R; Packing: Reel; Mounting Technology: Surface Mount; Code_JEDEC: MO-187-AA; ComponentLink1Description: Manufacturer URL; ComponentLink1URL: http://www.analog.com/en/index.html; ComponentLink2Description: Datasheet; ComponentLink2URL: http://www.analog.com/static/imported-files/data_sheets/ADG419.pdf; ComponentLink3Description: Package Specification; ComponentLink3URL: http://www.analog.com/static/imported-files/packages/PKG_PDF/MSOP%28RM%29/RM_8.pdf
footprint ADI-RM-8_N (SOP, 8-Leads, Body 3x3mm, Pitch 0.65mm, IPC Medium Density)
footprint ADI-RM-8_L (SOP, 8-Leads, Body 3x3mm, Pitch 0.65mm, IPC High Density)
footprint ADI-RM-8_M (SOP, 8-Leads, Body 3x3mm, Pitch 0.65mm, IPC Low Density)
pins: 1 D "Drain terminal. May be an input or an output.", 2 S1 "Source terminal. May be an input or an output.", 3 GND (power) "Ground (0 V) reference.", 4 VDD (power) "Most positive power supply potential.", 5 VL (power) "Logic power supply (5 V).", 6 IN (in) "Logic control input.", 7 VSS (power) "Most negative power supply potential in dual-supply applications. In single-supply applications, it may be connected to GND.", 8 S2 "Source terminal. May be an input or an output."

## ADG419BRMZ-REEL7
designator U?
LC2MOS Precision Mini-DIP Analog Switches, 25 Ohm Ron, 8-pin SOP (RM-8), Reel; Manufacturer: Analog Devices; PartNumber: ADG419BRMZ-REEL7; # Sw Functions: 1; Configuration: SPDT; Max Neg Supply: -16.5V; Max Pos Supply: +16.5V; Ron (ohms): 25, 40; DatasheetVersion: Rev. C; PackageVersion: Aug-05; PackageReference: RM-8; PackageDescription: 8-Pin Mini Small Outline Package, Body 3 x 3 mm, Pitch 0.65 mm; Supplier 1: Digi-Key; Supplier Part Number 1: ADG419BRMZ-REEL7TR-ND; Supplier 2: Digi-Key; Supplier Part Number 2: ADG419BRMZ-REEL7CT-ND; Supplier 3: Digi-Key; Supplier Part Number 3: ADG419BRMZ-REEL7DKR-ND; Supplier 4: Newark; Supplier Part Number 4: 59K1262; Supplier 5: Mouser; Supplier Part Number 5: 584-ADG419BRMZ-R7; Packing: Reel; Mounting Technology: Surface Mount; Code_JEDEC: MO-187-AA; ComponentLink1Description: Manufacturer URL; ComponentLink1URL: http://www.analog.com/en/index.html; ComponentLink2Description: Datasheet; ComponentLink2URL: http://www.analog.com/static/imported-files/data_sheets/ADG419.pdf; ComponentLink3Description: Package Specification; ComponentLink3URL: http://www.analog.com/static/imported-files/packages/PKG_PDF/MSOP%28RM%29/RM_8.pdf
footprint ADI-RM-8_N (SOP, 8-Leads, Body 3x3mm, Pitch 0.65mm, IPC Medium Density)
footprint ADI-RM-8_L (SOP, 8-Leads, Body 3x3mm, Pitch 0.65mm, IPC High Density)
footprint ADI-RM-8_M (SOP, 8-Leads, Body 3x3mm, Pitch 0.65mm, IPC Low Density)
pins: 1 D "Drain terminal. May be an input or an output.", 2 S1 "Source terminal. May be an input or an output.", 3 GND (power) "Ground (0 V) reference.", 4 VDD (power) "Most positive power supply potential.", 5 VL (power) "Logic power supply (5 V).", 6 IN (in) "Logic control input.", 7 VSS (power) "Most negative power supply potential in dual-supply applications. In single-supply applications, it may be connected to GND.", 8 S2 "Source terminal. May be an input or an output."

## ADG419BRZ
designator U?
LC2MOS Precision Mini-DIP Analog Switches, 25 Ohm Ron, 8-pin SOIC (R-8), Tube; Manufacturer: Analog Devices; PartNumber: ADG419BRZ; # Sw Functions: 1; Configuration: SPDT; Max Neg Supply: -16.5V; Max Pos Supply: +16.5V; Ron (ohms): 25, 40; DatasheetVersion: Rev. C; PackageVersion: 060506-A, 06/2006; PackageReference: R-8; PackageDescription: 8-Pin Standard Small Outline Package, Body 4.9 x 3.9 mm, Pitch 1.27 mm; Supplier 1: Digi-Key; Supplier Part Number 1: ADG419BRZ-ND; Supplier 2: Farnell; Supplier Part Number 2: 1661025; Supplier 3: Newark; Supplier Part Number 3: 59K1263; Supplier 4: Mouser; Supplier Part Number 4: 584-ADG419BRZ; Packing: Tube; Mounting Technology: Surface Mount; Code_JEDEC: MS-012-AA; ComponentLink1Description: Manufacturer URL; ComponentLink1URL: http://www.analog.com/en/index.html; ComponentLink2Description: Datasheet; ComponentLink2URL: http://www.analog.com/static/imported-files/data_sheets/ADG419.pdf; ComponentLink3Description: Package Specification; ComponentLink3URL: http://www.analog.com/static/imported-files/packages/PKG_PDF/SOIC_Narrow%20(R)/R_8.pdf
footprint ADI-R-8_N (SOIC, 8-Leads, Body 4.9x3.9mm, Pitch 1.27mm, IPC Medium Density)
footprint ADI-R-8_L (SOIC, 8-Leads, Body 4.9x3.9mm, Pitch 1.27mm, IPC High Density)
footprint ADI-R-8_M (SOIC, 8-Leads, Body 4.9x3.9mm, Pitch 1.27mm, IPC Low Density)
pins: 1 D "Drain terminal. May be an input or an output.", 2 S1 "Source terminal. May be an input or an output.", 3 GND (power) "Ground (0 V) reference.", 4 VDD (power) "Most positive power supply potential.", 5 VL (power) "Logic power supply (5 V).", 6 IN (in) "Logic control input.", 7 VSS (power) "Most negative power supply potential in dual-supply applications. In single-supply applications, it may be connected to GND.", 8 S2 "Source terminal. May be an input or an output."

## ADG419BRZ-REEL
designator U?
LC2MOS Precision Mini-DIP Analog Switches, 25 Ohm Ron, 8-pin SOIC (R-8), Reel; Manufacturer: Analog Devices; PartNumber: ADG419BRZ-REEL; # Sw Functions: 1; Configuration: SPDT; Max Neg Supply: -16.5V; Max Pos Supply: +16.5V; Ron (ohms): 25, 40; DatasheetVersion: Rev. C; PackageVersion: 060506-A, 06/2006; PackageReference: R-8; PackageDescription: 8-Pin Standard Small Outline Package, Body 4.9 x 3.9 mm, Pitch 1.27 mm; Supplier 1: Digi-Key; Supplier Part Number 1: ADG419BRZ-REEL-ND; Supplier 2: Newark; Supplier Part Number 2: 59K1264; Supplier 3: Mouser; Supplier Part Number 3: 584-ADG419BRZ-R; Packing: Reel; Mounting Technology: Surface Mount; Code_JEDEC: MS-012-AA; ComponentLink1Description: Manufacturer URL; ComponentLink1URL: http://www.analog.com/en/index.html; ComponentLink2Description: Datasheet; ComponentLink2URL: http://www.analog.com/static/imported-files/data_sheets/ADG419.pdf; ComponentLink3Description: Package Specification; ComponentLink3URL: http://www.analog.com/static/imported-files/packages/PKG_PDF/SOIC_Narrow%20(R)/R_8.pdf
footprint ADI-R-8_N (SOIC, 8-Leads, Body 4.9x3.9mm, Pitch 1.27mm, IPC Medium Density)
footprint ADI-R-8_L (SOIC, 8-Leads, Body 4.9x3.9mm, Pitch 1.27mm, IPC High Density)
footprint ADI-R-8_M (SOIC, 8-Leads, Body 4.9x3.9mm, Pitch 1.27mm, IPC Low Density)
pins: 1 D "Drain terminal. May be an input or an output.", 2 S1 "Source terminal. May be an input or an output.", 3 GND (power) "Ground (0 V) reference.", 4 VDD (power) "Most positive power supply potential.", 5 VL (power) "Logic power supply (5 V).", 6 IN (in) "Logic control input.", 7 VSS (power) "Most negative power supply potential in dual-supply applications. In single-supply applications, it may be connected to GND.", 8 S2 "Source terminal. May be an input or an output."

## ADG419BRZ-REEL7
designator U?
LC2MOS Precision Mini-DIP Analog Switches, 25 Ohm Ron, 8-pin SOIC (R-8), Reel; Manufacturer: Analog Devices; PartNumber: ADG419BRZ-REEL7; # Sw Functions: 1; Configuration: SPDT; Max Neg Supply: -16.5V; Max Pos Supply: +16.5V; Ron (ohms): 25, 40; DatasheetVersion: Rev. C; PackageVersion: 060506-A, 06/2006; PackageReference: R-8; PackageDescription: 8-Pin Standard Small Outline Package, Body 4.9 x 3.9 mm, Pitch 1.27 mm; Supplier 1: Digi-Key; Supplier Part Number 1: ADG419BRZ-REEL7TR-ND; Supplier 2: Digi-Key; Supplier Part Number 2: ADG419BRZ-REEL7CT-ND; Supplier 3: Digi-Key; Supplier Part Number 3: ADG419BRZ-REEL7DKR-ND; Supplier 4: Newark; Supplier Part Number 4: 59K1265; Supplier 5: Mouser; Supplier Part Number 5: 584-ADG419BRZ-R7; Packing: Reel; Mounting Technology: Surface Mount; Code_JEDEC: MS-012-AA; ComponentLink1Description: Manufacturer URL; ComponentLink1URL: http://www.analog.com/en/index.html; ComponentLink2Description: Datasheet; ComponentLink2URL: http://www.analog.com/static/imported-files/data_sheets/ADG419.pdf; ComponentLink3Description: Package Specification; ComponentLink3URL: http://www.analog.com/static/imported-files/packages/PKG_PDF/SOIC_Narrow%20(R)/R_8.pdf
footprint ADI-R-8_N (SOIC, 8-Leads, Body 4.9x3.9mm, Pitch 1.27mm, IPC Medium Density)
footprint ADI-R-8_L (SOIC, 8-Leads, Body 4.9x3.9mm, Pitch 1.27mm, IPC High Density)
footprint ADI-R-8_M (SOIC, 8-Leads, Body 4.9x3.9mm, Pitch 1.27mm, IPC Low Density)
pins: 1 D "Drain terminal. May be an input or an output.", 2 S1 "Source terminal. May be an input or an output.", 3 GND (power) "Ground (0 V) reference.", 4 VDD (power) "Most positive power supply potential.", 5 VL (power) "Logic power supply (5 V).", 6 IN (in) "Logic control input.", 7 VSS (power) "Most negative power supply potential in dual-supply applications. In single-supply applications, it may be connected to GND.", 8 S2 "Source terminal. May be an input or an output."

## ADG419TQ
designator U?
LC2MOS Precision Mini-DIP Analog Switches, 25 Ohm Ron, 8-pin DIP (Q-8), Tube; Manufacturer: Analog Devices; PartNumber: ADG419TQ; # Sw Functions: 1; Configuration: SPDT; Max Neg Supply: -16.5V; Max Pos Supply: +16.5V; Ron (ohms): 25, 40; DatasheetVersion: Rev. C; PackageVersion: Aug-05; PackageReference: Q-8; PackageDescription: 8-Pin Ceramic Dual In-Line Package, Row spacing 7.62 mm, Pitch 2.54 mm; Supplier 1: Digi-Key; Supplier Part Number 1: ADG419TQ-ND; Supplier 2: Newark; Supplier Part Number 2: 09B7035; Supplier 3: Mouser; Supplier Part Number 3: 584-ADG419TQ; Packing: Tube; Mounting Technology: Through Hole; ComponentLink1Description: Manufacturer URL; ComponentLink1URL: http://www.analog.com/en/index.html; ComponentLink2Description: Datasheet; ComponentLink2URL: http://www.analog.com/static/imported-files/data_sheets/ADG419.pdf; ComponentLink3Description: Package Specification; ComponentLink3URL: http://www.analog.com/static/imported-files/packages/3925655241313314758Q_8.pdf
footprint ADI-Q-8 (DIP, 8-Leads, Body 10.29x6.73mm, Pitch 2.54mm)
pins: 1 D "Drain terminal. May be an input or an output.", 2 S1 "Source terminal. May be an input or an output.", 3 GND (power) "Ground (0 V) reference.", 4 VDD (power) "Most positive power supply potential.", 5 VL (power) "Logic power supply (5 V).", 6 IN (in) "Logic control input.", 7 VSS (power) "Most negative power supply potential in dual-supply applications. In single-supply applications, it may be connected to GND.", 8 S2 "Source terminal. May be an input or an output."

## ADG431BN
designator U?
LC2MOS Precision Quad SPST Switches, 17 Ohm Ron, 16-pin DIP (N-16), Tube; Manufacturer: Analog Devices; PartNumber: ADG431BN; # Sw Functions: 4; Max Neg Supply: -16.5V; Max Pos Supply: +16.5V; Ron (ohms): 17, 28; t ON: 90ns, 165ns; DatasheetVersion: Rev. C; PackageVersion: 070706-A, 07/2006; PackageReference: N-16; PackageDescription: 16-Pin Plastic Dual In-Line Package, Row spacing 7.62 mm, Pitch 2.54 mm; Supplier 1: Digi-Key; Supplier Part Number 1: ADG431BN-ND; Configuration: SPST; Packing: Tube; Mounting Technology: Through Hole; Code_JEDEC: MS-001; ComponentLink1Description: Manufacturer URL; ComponentLink1URL: http://www.analog.com/en/index.html; ComponentLink2Description: Datasheet; ComponentLink2URL: http://www.analog.com/static/imported-files/data_sheets/ADG431_432_433.pdf; ComponentLink3Description: Package Specification; ComponentLink3URL: http://www.analog.com/static/imported-files/packages/44768431550332N_16.pdf
footprint ADI-N-16 (DIP, 16-Leads, Body 20.07x6.6mm, Pitch 2.54mm)
pins: 1 IN1 (in) "Logic control input.", 2 D1 "Drain terminal. May be an input or output.", 3 S1 "Source terminal. May be an input or output.", 4 VSS (power) "Most negative power supply potential in dual supplies. In single supply applications, it may be connected to GND.", 5 GND (power) "Ground (0 V) reference.", 6 S4 "Source terminal. May be an input or output.", 7 D4 "Drain terminal. May be an input or output.", 8 IN4 (in) "Logic control input.", 9 IN3 (in) "Logic control input.", 10 D3 "Drain terminal. May be an input or output.", 11 S3 "Source terminal. May be an input or output.", 12 VL (power) "Logic power supply (5 V).", 13 VDD (power) "Most positive power supply potential.", 14 S2 "Source terminal. May be an input or output.", 15 D2 "Drain terminal. May be an input or output.", 16 IN2 (in) "Logic control input."

## ADG431BNZ
designator U?
LC2MOS Precision Quad SPST Switches, 17 Ohm Ron, 16-pin DIP (N-16), Tube; Manufacturer: Analog Devices; PartNumber: ADG431BNZ; # Sw Functions: 4; Max Neg Supply: -16.5V; Max Pos Supply: +16.5V; Ron (ohms): 17, 28; t ON: 90ns, 165ns; DatasheetVersion: Rev. C; PackageVersion: 070706-A, 07/2006; PackageReference: N-16; PackageDescription: 16-Pin Plastic Dual In-Line Package, Row spacing 7.62 mm, Pitch 2.54 mm; Supplier 1: Digi-Key; Supplier Part Number 1: ADG431BNZ-ND; Supplier 2: Newark; Supplier Part Number 2: 59K1276; Supplier 3: Mouser; Supplier Part Number 3: 584-ADG431BNZ; Configuration: SPST; Packing: Tube; Mounting Technology: Through Hole; Code_JEDEC: MS-001; ComponentLink1Description: Manufacturer URL; ComponentLink1URL: http://www.analog.com/en/index.html; ComponentLink2Description: Datasheet; ComponentLink2URL: http://www.analog.com/static/imported-files/data_sheets/ADG431_432_433.pdf; ComponentLink3Description: Package Specification; ComponentLink3URL: http://www.analog.com/static/imported-files/packages/44768431550332N_16.pdf
footprint ADI-N-16 (DIP, 16-Leads, Body 20.07x6.6mm, Pitch 2.54mm)
pins: 1 IN1 (in) "Logic control input.", 2 D1 "Drain terminal. May be an input or output.", 3 S1 "Source terminal. May be an input or output.", 4 VSS (power) "Most negative power supply potential in dual supplies. In single supply applications, it may be connected to GND.", 5 GND (power) "Ground (0 V) reference.", 6 S4 "Source terminal. May be an input or output.", 7 D4 "Drain terminal. May be an input or output.", 8 IN4 (in) "Logic control input.", 9 IN3 (in) "Logic control input.", 10 D3 "Drain terminal. May be an input or output.", 11 S3 "Source terminal. May be an input or output.", 12 VL (power) "Logic power supply (5 V).", 13 VDD (power) "Most positive power supply potential.", 14 S2 "Source terminal. May be an input or output.", 15 D2 "Drain terminal. May be an input or output.", 16 IN2 (in) "Logic control input."

## ADG431BR
designator U?
LC2MOS Precision Quad SPST Switches, 17 Ohm Ron, 16-pin SOIC (R-16), Tube; Manufacturer: Analog Devices; PartNumber: ADG431BR; # Sw Functions: 4; Max Neg Supply: -16.5V; Max Pos Supply: +16.5V; Ron (ohms): 17, 28; t ON: 90ns, 165ns; DatasheetVersion: Rev. C; PackageVersion: 060606-A, 06/2006; PackageReference: R-16; PackageDescription: 16-Pin Standard Small Outline Package, Body 9.9 x 3.9 mm, Pitch 1.27 mm; Supplier 1: Digi-Key; Supplier Part Number 1: ADG431BR-ND; Supplier 2: Mouser; Supplier Part Number 2: 584-ADG431BR; Configuration: SPST; Packing: Tube; Mounting Technology: Surface Mount; Code_JEDEC: MS-012-AC; ComponentLink1Description: Manufacturer URL; ComponentLink1URL: http://www.analog.com/en/index.html; ComponentLink2Description: Datasheet; ComponentLink2URL: http://www.analog.com/static/imported-files/data_sheets/ADG431_432_433.pdf; ComponentLink3Description: Package Specification; ComponentLink3URL: http://www.analog.com/static/imported-files/packages/PKG_PDF/SOIC_Narrow%20(R)/R_16.pdf
footprint ADI-R-16_N (SOIC, 16-Leads, Body 9.9x3.9mm, Pitch 1.27mm, IPC Medium Density)
footprint ADI-R-16_L (SOIC, 16-Leads, Body 9.9x3.9mm, Pitch 1.27mm, IPC High Density)
footprint ADI-R-16_M (SOIC, 16-Leads, Body 9.9x3.9mm, Pitch 1.27mm, IPC Low Density)
pins: 1 IN1 (in) "Logic Control Input.", 2 D1 "Drain Terminal. Can be an input or output.", 3 S1 "Source Terminal. Can be an input or output.", 4 VSS (power) "Most Negative Power Supply Potential.", 5 GND (power) "Ground (0 V) Reference.", 6 S4 "Source Terminal. Can be an input or output.", 7 D4 "Drain Terminal. Can be an input or output.", 8 IN4 (in) "Logic Control Input.", 9 IN3 (in) "Logic Control Input.", 10 D3 "Drain Terminal. Can be an input or output.", 11 S3 "Source Terminal. Can be an input or output.", 12 VL (power) "Logic Supply Voltage.", 13 VDD (power) "Most Positive Power Supply Potential.", 14 S2 "Source Terminal. Can be an input or output.", 15 D2 "Drain Terminal. Can be an input or output.", 16 IN2 (in) "Logic Control Input."

## ADG431BR-REEL
designator U?
LC2MOS Precision Quad SPST Switches, 17 Ohm Ron, 16-pin SOIC (R-16), Reel; Manufacturer: Analog Devices; PartNumber: ADG431BR-REEL; # Sw Functions: 4; Max Neg Supply: -16.5V; Max Pos Supply: +16.5V; Ron (ohms): 17, 28; t ON: 90ns, 165ns; DatasheetVersion: Rev. C; PackageVersion: 060606-A, 06/2006; PackageReference: R-16; PackageDescription: 16-Pin Standard Small Outline Package, Body 9.9 x 3.9 mm, Pitch 1.27 mm; Supplier 1: Digi-Key; Supplier Part Number 1: ADG431BR-REEL-ND; Supplier 2: Newark; Supplier Part Number 2: 09B7047; Supplier 3: Mouser; Supplier Part Number 3: 584-ADG431BR-R; Configuration: SPST; Packing: Reel; Mounting Technology: Surface Mount; Code_JEDEC: MS-012-AC; ComponentLink1Description: Manufacturer URL; ComponentLink1URL: http://www.analog.com/en/index.html; ComponentLink2Description: Datasheet; ComponentLink2URL: http://www.analog.com/static/imported-files/data_sheets/ADG431_432_433.pdf; ComponentLink3Description: Package Specification; ComponentLink3URL: http://www.analog.com/static/imported-files/packages/PKG_PDF/SOIC_Narrow%20(R)/R_16.pdf
footprint ADI-R-16_N (SOIC, 16-Leads, Body 9.9x3.9mm, Pitch 1.27mm, IPC Medium Density)
footprint ADI-R-16_L (SOIC, 16-Leads, Body 9.9x3.9mm, Pitch 1.27mm, IPC High Density)
footprint ADI-R-16_M (SOIC, 16-Leads, Body 9.9x3.9mm, Pitch 1.27mm, IPC Low Density)
pins: 1 IN1 (in) "Logic Control Input.", 2 D1 "Drain Terminal. Can be an input or output.", 3 S1 "Source Terminal. Can be an input or output.", 4 VSS (power) "Most Negative Power Supply Potential.", 5 GND (power) "Ground (0 V) Reference.", 6 S4 "Source Terminal. Can be an input or output.", 7 D4 "Drain Terminal. Can be an input or output.", 8 IN4 (in) "Logic Control Input.", 9 IN3 (in) "Logic Control Input.", 10 D3 "Drain Terminal. Can be an input or output.", 11 S3 "Source Terminal. Can be an input or output.", 12 VL (power) "Logic Supply Voltage.", 13 VDD (power) "Most Positive Power Supply Potential.", 14 S2 "Source Terminal. Can be an input or output.", 15 D2 "Drain Terminal. Can be an input or output.", 16 IN2 (in) "Logic Control Input."